# Altium footprint library Razems.PcbLib: 10 footprints
Each footprint in its own frame and in the unit in brackets; x right, y up, seen from the top. Pads: shape width x height; smd on the part's side, far side on the other; paste and mask are expansions set on the pad; w line width, h text height; cw(c..) or ccw(c..) is an arc to the next point about the centre after c.
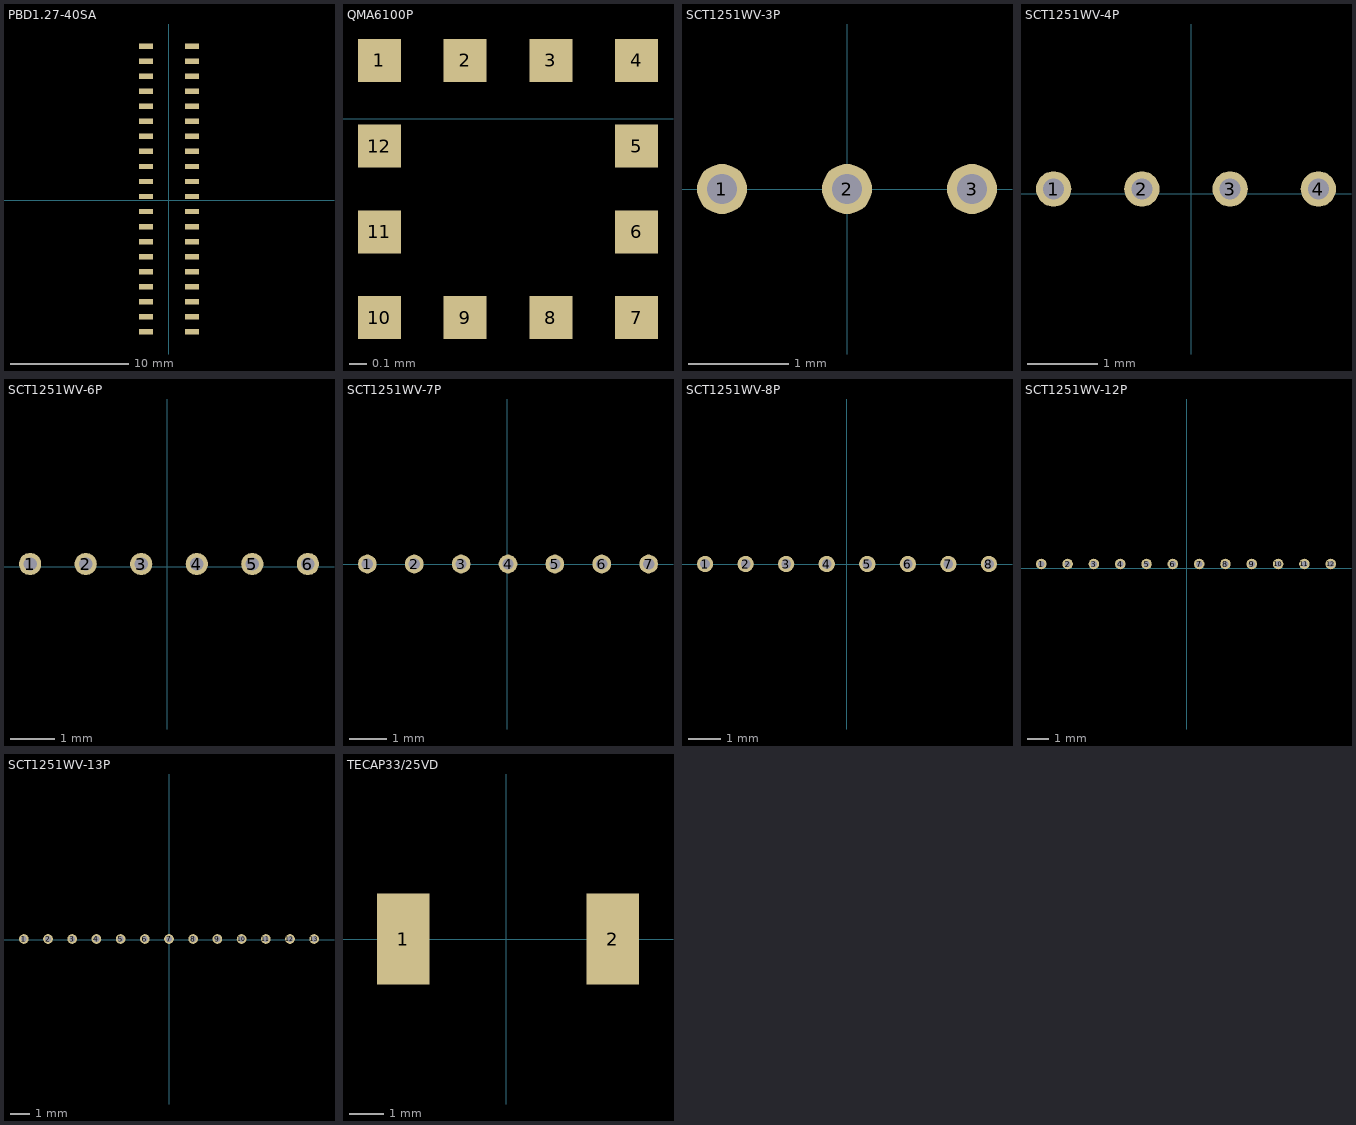
[diagram p0: the footprints below, top view; thin cyan lines are the x and y axes]

## PBD1.27-40SA [mm]
pads (40):
  rect 1.2x0.45 smd: 1(-1.947,12.994) 2(1.953,12.994) 3(-1.947,11.724) 4(1.953,11.724) 5(-1.947,10.454) 6(1.953,10.454) 7(-1.947,9.184) 8(1.953,9.184) 9(-1.947,7.914) 10(1.953,7.914) 11(-1.947,6.644) 12(1.953,6.644) 13(-1.947,5.374) 14(1.953,5.374) 15(-1.947,4.104) 16(1.953,4.104) 17(-1.947,2.834) 18(1.953,2.834) 19(-1.947,1.564) 20(1.953,1.564) 21(-1.947,0.294) 22(1.953,0.294) 23(-1.947,-0.976) 24(1.953,-0.976) 25(-1.947,-2.246) 26(1.953,-2.246) 27(-1.947,-3.516) 28(1.953,-3.516) 29(-1.947,-4.786) 30(1.953,-4.786) 31(-1.947,-6.056) 32(1.953,-6.056) 33(-1.947,-7.326) 34(1.953,-7.326) 35(-1.947,-8.596) 36(1.953,-8.596) 37(-1.947,-9.866) 38(1.953,-9.866) 39(-1.947,-11.136) 40(1.953,-11.136)

## QMA6100P [mm]
pads (12):
  rect 0.25x0.25 smd: 1(-1.818,0.339) 2(-1.318,0.339) 3(-0.818,0.339) 4(-0.318,0.339) 5(-0.318,-0.161) 6(-0.318,-0.661) 7(-0.318,-1.161) 8(-0.818,-1.161) 9(-1.318,-1.161) 10(-1.818,-1.161) 11(-1.818,-0.661) 12(-1.818,-0.161)

## SCT1251WV-3P [mm]
pads (3):
  round 0.5 hole 0.3: 1(-1.25,0) 2(0,0) 3(1.25,0)

## SCT1251WV-4P [mm]
pads (4):
  round 0.5 hole 0.3: 1(-1.947,0.067) 2(-0.697,0.067) 3(0.553,0.067) 4(1.803,0.067)

## SCT1251WV-6P [mm]
pads (6):
  round 0.5 hole 0.3: 1(-3.09,0.067) 2(-1.84,0.067) 3(-0.59,0.067) 4(0.66,0.067) 5(1.91,0.067) 6(3.16,0.067)

## SCT1251WV-7P [mm]
pads (7):
  round 0.5 hole 0.3: 1(-3.73,0) 2(-2.48,0) 3(-1.23,0) 4(0.02,0) 5(1.27,0) 6(2.52,0) 7(3.77,0)

## SCT1251WV-8P [mm]
pads (8):
  round 0.5 hole 0.3: 1(-4.365,0) 2(-3.115,0) 3(-1.865,0) 4(-0.615,0) 5(0.635,0) 6(1.885,0) 7(3.135,0) 8(4.385,0)

## SCT1251WV-12P [mm]
pads (12):
  round 0.5 hole 0.3: 1(-6.9,0.194) 2(-5.65,0.194) 3(-4.4,0.194) 4(-3.15,0.194) 5(-1.9,0.194) 6(-0.65,0.194) 7(0.6,0.194) 8(1.85,0.194) 9(3.1,0.194) 10(4.35,0.194) 11(5.6,0.194) 12(6.85,0.194)

## SCT1251WV-13P [mm]
pads (13):
  round 0.5 hole 0.3: 1(-7.522,0.048) 2(-6.272,0.048) 3(-5.022,0.048) 4(-3.772,0.048) 5(-2.522,0.048) 6(-1.272,0.048) 7(-0.022,0.048) 8(1.228,0.048) 9(2.478,0.048) 10(3.728,0.048) 11(4.978,0.048) 12(6.228,0.048) 13(7.478,0.048)

## TECAP33/25VD [mm]
pads (2):
  rect 1.5x2.6 smd: 1(-2.952,0) 2(3.048,0)